# Altium footprint library gps-tag-lora-addon.PcbLib: 6 footprints
Each footprint in its own frame and in the unit in brackets; x right, y up, seen from the top. Pads: shape width x height; smd on the part's side, far side on the other; paste and mask are expansions set on the pad; w line width, h text height; cw(c..) or ccw(c..) is an arc to the next point about the centre after c.
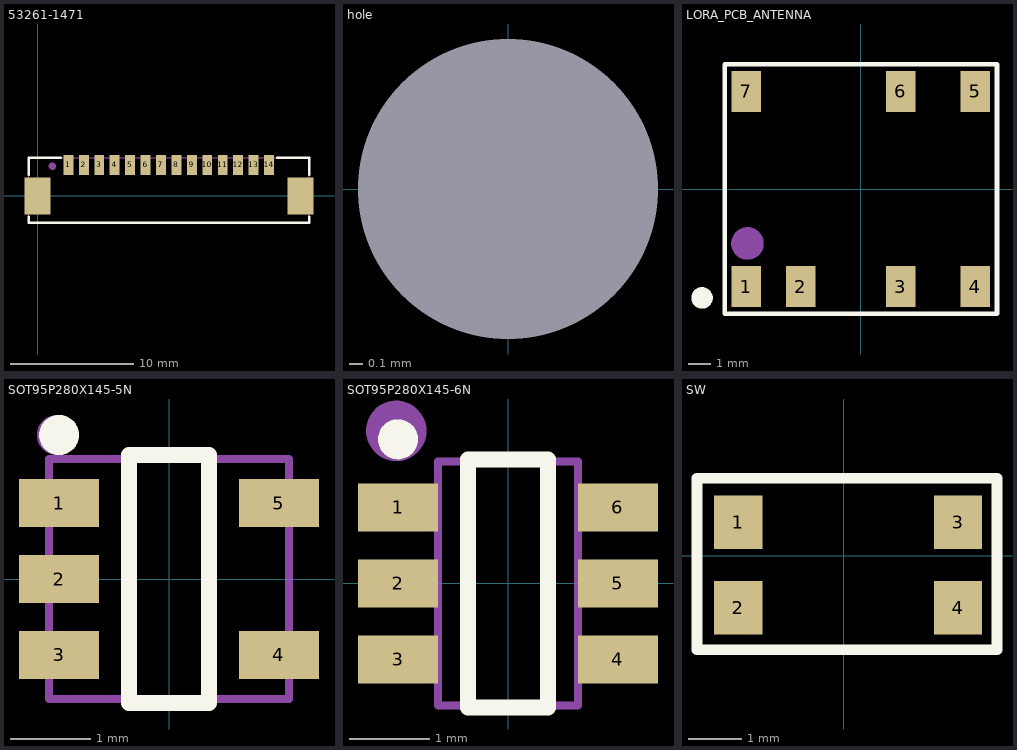
[diagram p0: the footprints below, top view; thin cyan lines are the x and y axes]

## 53261-1471 [mm]
pads (16):
  rect 0.8x1.6 smd: 1(2.5,2.5) 2(3.75,2.5) 3(5,2.5) 4(6.25,2.5) 5(7.5,2.5) 6(8.75,2.5) 7(10,2.5) 8(11.25,2.5) 9(12.5,2.5) 10(13.75,2.5) 11(15,2.5) 12(16.25,2.5) 13(17.5,2.5) 14(18.75,2.5)
  rect 2.1x3 smd: ""(0,0) ""(21.3,0)
Top Overlay:
  lines w0.2: -0.7,-1.7 -0.7,-2.2 22,-2.2 22,-1.7 ; -0.7,1.7 -0.7,3.1 1.9,3.1 ; 19.4,3.1 22,3.1 22,1.7
Mechanical 29:
  circle w0.3: c1.2,2.4 r0.141
  lines w0.1: -0.7,-2.2 22,-2.2 22,3.1 -0.7,3.1 -0.7,-2.2
  text "'.Designator'" at 8.625,-0.275 h0.6
3D body "532611471.stp": height 3.41, standoff 0.01, extent -0.675,-2.175 21.975,3.025

## hole [mm]
pads (1):
  round 0 hole 2.2 unplated mask+2.8: 1(0,0)

## LORA_PCB_ANTENNA [mm]
pads (7):
  rect 1.3x1.8 smd: 1(-5.05,-4.3) 2(-2.65,-4.3) 3(1.75,-4.3) 4(5.05,-4.3) 5(5.05,4.3) 6(1.75,4.3) 7(-5.05,4.3)
Top Overlay:
  circle w0.5: c-7,-4.8 r0.224
  lines w0.2: -6,-5.5 -6,5.5 6,5.5 6,-5.5 -6,-5.5
Mechanical 29:
  circle w0.8: c-5,-2.4 r0.316
  lines w0.1: -6,-5.5 6,-5.5 6,5.5 -6,5.5 -6,-5.5
  text "'.Designator'" at -1.175,-0.475 h0.6
3D body: height 1.7, standoff 0, extent -6,-5.5 6,5.5

## SOT95P280X145-5N [mm] "SOT23, 5-Leads, Body 2.90x2.80mm, Pitch 0.95mm, IPC Medium Density"
height 1.45
pads (5):
  rect 1x0.6 smd: 1(-1.375,0.95) 2(-1.375,0) 3(-1.375,-0.95) 4(1.375,-0.95) 5(1.375,0.95)
Top Overlay:
  circle w0.25: c-1.375,1.8 r0.125
  lines w0.2: -0.5,-1.55 -0.5,1.55 0.5,1.55 0.5,-1.55 -0.5,-1.55
Mechanical 29:
  circle w0.3: c-1.4,1.8 r0.1
  lines w0.1: -1.5,-1.5 1.5,-1.5 1.5,1.5 -1.5,1.5 -1.5,-1.5
  text "'.Designator'" at -0.475,-0.375 h0.6
3D body "SOT95P280X145-5N.step": height 1.45, standoff 0, extent -1.5,-1.525 1.5,1.525

## SOT95P280X145-6N [mm] "SOT23, 6-Leads, Body 2.90x2.80mm, Pitch 0.95mm, IPC Medium Density"
height 1.45
pads (6):
  rect 1x0.6 smd: 1(-1.375,0.95) 2(-1.375,0) 3(-1.375,-0.95) 4(1.375,-0.95) 5(1.375,0) 6(1.375,0.95)
Top Overlay:
  circle w0.25: c-1.375,1.8 r0.125
  lines w0.2: -0.5,-1.55 -0.5,1.55 0.5,1.55 0.5,-1.55 -0.5,-1.55
Mechanical 29:
  circle w0.5: c-1.397,1.905 r0.127
  lines w0.1: -0.875,-1.525 0.875,-1.525 0.875,1.525 -0.875,1.525 -0.875,-1.525
  text "'.Designator'" at 0.4,-1.1 h0.6
3D body "SOT95P280X145-6N.step": height 1.45, standoff 0, extent -1.5,-1.525 1.5,1.525

## SW [mm]
pads (4):
  rect 0.9x1 smd: 1(-1.968,0.63) 2(-1.968,-0.97) 3(2.132,0.63) 4(2.132,-0.97)
Top Overlay:
  lines w0.2: -2.74,-1.75 -2.74,1.45 2.86,1.45 2.86,-1.75 -2.74,-1.75
Mechanical 29:
  lines w0.1: -2.74,-1.75 -2.74,1.45 2.86,1.45 2.86,-1.75 -2.74,-1.75
  text "'.Designator'" at -1.4,-0.5 h1
3D body "User Library-Switch-CK-KMR2.STEP": height 2.1, standoff 0, extent -2.22,-1.66 2.38,1.34